# EAGLE library part JTAG-HEADER (library Controller)
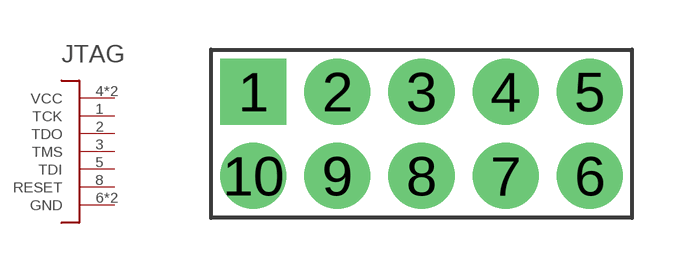
[diagram p17: symbol with the pads of HEADER-5X2-2.54; footprint HEADER-5X2-2.54]

Designator prefix JTAG

## JTAG-HEADER  [HEADER-5X2-2.54]
1  TCK
2  TDO
3  TMS
4  VCC
5  TDI
6  GND
8  RESET
9  VCC
10  GND

## Footprint HEADER-5X2-2.54 (pad centres in mm)
5 pin 0.1" header
drill 1.05 pad 2 square: 1 -5.08,1.27
drill 1.05 pad 2: 2 -2.54,1.27; 3 0,1.27; 4 2.54,1.27; 5 5.08,1.27; 6 5.08,-1.27; 7 2.54,-1.27; 8 0,-1.27; 9 -2.54,-1.27; 10 -5.08,-1.27